# EAGLE library part HMC641LC4 (library microwave)
GaAs MMIC SP4T NON-REFLECTIVE SWITCH, DC - 20 GHz Source: Data sheet <http://www.hittite.com/content/documents/data_sheet/hmc641lc4.pdf>
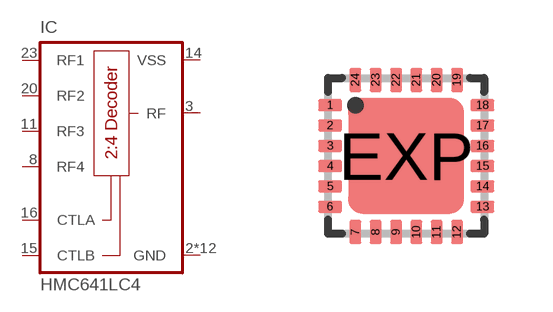
[diagram p4: symbol with the pads of QFN24; footprint QFN24]

Designator prefix IC

## HMC641LC4  [QFN24]
2  GND  in
3  RF  in
4  GND  in
7  GND  in
8  RF4  in
9  GND  in
10  GND  in
11  RF3  in
12  GND  in
14  VSS  in
15  CTLB  in
16  CTLA  in
17  GND  in
19  GND  in
20  RF2  in
21  GND  in
22  GND  in
23  RF1  in
24  GND  in
EXP  GND  in

## Footprint QFN24 (pad centres in mm)
QFN 4x4 mm Source: http://www.hittite.com/product_info/product_specs/dividersdetectors/hmc394lp4.pdf
smd 0.6 x 0.3: 1 -1.905,1.27; 2 -1.905,0.762; 3 -1.905,0.254; 4 -1.905,-0.254; 5 -1.905,-0.762; 6 -1.905,-1.27; 13 1.905,-1.27; 14 1.905,-0.762; 15 1.905,-0.254; 16 1.905,0.254; 17 1.905,0.762; 18 1.905,1.27
smd 0.3 x 0.6: 7 -1.27,-1.905; 8 -0.762,-1.905; 9 -0.254,-1.905; 10 0.254,-1.905; 11 0.762,-1.905; 12 1.27,-1.905; 19 1.27,1.905; 20 0.762,1.905; 21 0.254,1.905; 22 -0.254,1.905; 23 -0.762,1.905; 24 -1.27,1.905
smd 2.9 x 2.9: EXP 0,0